# EAGLE library part LTC2909*DDB (library linear-technology-3)
Precision Triple/Dual Input UV, OV and Negative Voltage Monitor
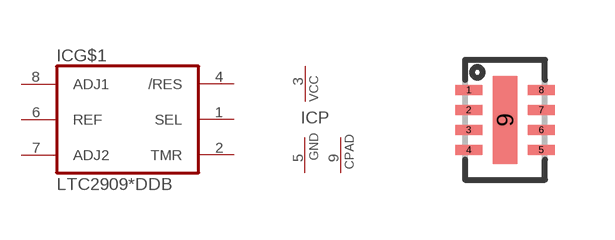
[diagram p36: symbol with the pads of DFN8; footprint DFN8]

Designator prefix IC; gates G$1=LTC2909 P=PWRN-C-G-SH

## LTC2909CDDB, LTC2909IDDB  [DFN8]
1  G$1:SEL  pas
2  G$1:TMR  pas
3  P:VCC  pwr
4  G$1:/RES  oc
5  P:GND  pwr
6  G$1:REF  pas
7  G$1:ADJ2  in
8  G$1:ADJ1  in
9  P:CPAD  pas

## Footprint DFN8 (pad centres in mm)
smd 0.675 x 0.25: 1 -0.91,0.75; 2 -0.91,0.25; 3 -0.91,-0.25; 4 -0.91,-0.75; 5 0.91,-0.75; 6 0.91,-0.25; 7 0.91,0.25; 8 0.91,0.75
smd 0.61 x 2.2: 9 0,0